# Altium footprint library BB-HEADER-P06-P10.PcbLib: 1 footprints
Each footprint in its own frame and in the unit in brackets; x right, y up, seen from the top. Pads: shape width x height; smd on the part's side, far side on the other; paste and mask are expansions set on the pad; w line width, h text height; cw(c..) or ccw(c..) is an arc to the next point about the centre after c.
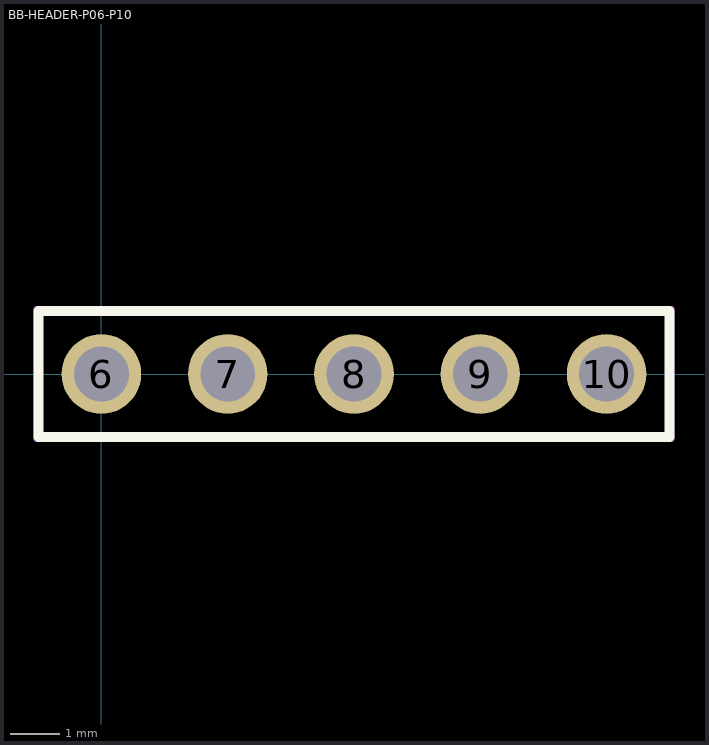
[diagram p0: the footprint, top view; thin cyan lines are the x and y axes]

## BB-HEADER-P06-P10 [mm] "BB Header, Vertical, Male, 0.1\", 2.54mm, P06-P10"
height 11.6
pads (5):
  round 1.6 hole 1.1: 6(0,0) 7(2.54,0) 8(5.08,0) 9(7.62,0) 10(10.16,0)
Top Overlay:
  lines w0.2: -1.27,-1.27 -1.27,1.27 11.43,1.27 11.43,-1.27 -1.27,-1.27
Mechanical 13:
  lines w0.1: -1.27,-1.27 -1.27,1.27 11.43,1.27 11.43,-1.27 -1.27,-1.27
Mechanical 15:
  lines w0.1: -1.32,-1.32 11.48,-1.32 11.48,1.32 -1.32,1.32 -1.32,-1.32
3D body: height 8.54, standoff -3, extent -1.27,-1.27 11.43,1.27